# Altium schematic symbol library DW01+G.Schlib: 1 symbol
Pins are listed as number, name and electrical type; pins without a type are passive.

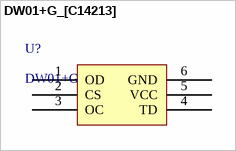
[diagram p0: symbol DW01+G_[C14213]]

## DW01+G_[C14213]
designator U?, comment DW01+G
电池保护芯片
footprint SOT-23-6
pins: 1 OD, 2 CS, 3 OC, 4 TD, 5 VCC, 6 GND